# EAGLE library part ULN2803 (library ds_ic_peripherals)
ULN2803A Darlington Transistor Arrays
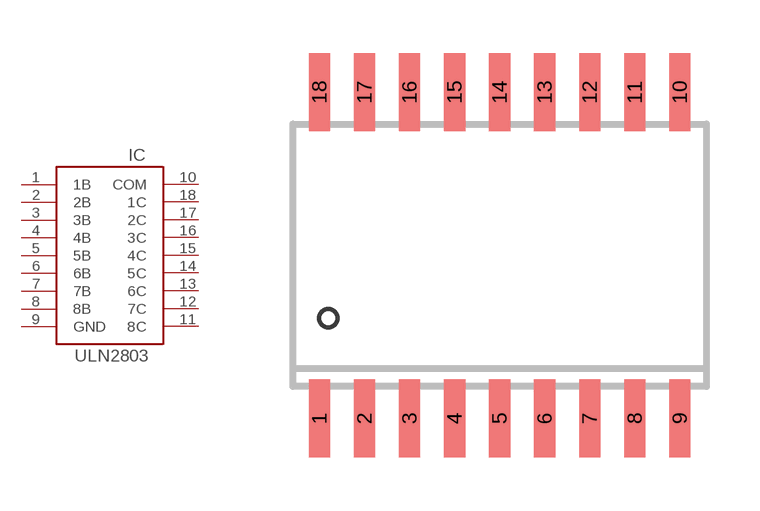
[diagram p36: symbol with the pads of SO18; footprint SO18]

Designator prefix IC

## ULN2803 (DATASHEET: https://www.sycelectronica.com.ar/semiconductores/ULN2803-SMD.pdf?srsltid=AfmBOophiuKj-Ssp-X9zHCj-smbNohAULqg7ZzMWt7RSG8XB10-82Tty; DESCRIPTION: SOP-18-300mil Darlington Transistor Arrays ROHS; HQ_PART: ZHLM0322921; LCSC_PART: C845537; MANUFACTURER: UMW; MPN: ULN2803A; ROHS: YES; VALUE: ULN2803AFWG)  [SO18]
1  1B
2  2B
3  3B
4  4B
5  5B
6  6B
7  7B
8  8B
9  GND
10  COM
11  8C
12  7C
13  6C
14  5C
15  4C
16  3C
17  2C
18  1C

## Footprint SO18 (pad centres in mm)
smd 0.6 x 2.2: 1 -5.08,-4.6; 2 -3.81,-4.6; 3 -2.54,-4.6; 4 -1.27,-4.6; 5 0,-4.6; 6 1.27,-4.6; 7 2.54,-4.6; 8 3.81,-4.6; 9 5.08,-4.6; 10 5.08,4.6; 11 3.81,4.6; 12 2.54,4.6; 13 1.27,4.6; 14 0,4.6; 15 -1.27,4.6; 16 -2.54,4.6; 17 -3.81,4.6; 18 -5.08,4.6